# Altium schematic symbol library eElements.SCHLIB: 28 symbols
Pins are listed as number, name and electrical type; pins without a type are passive.

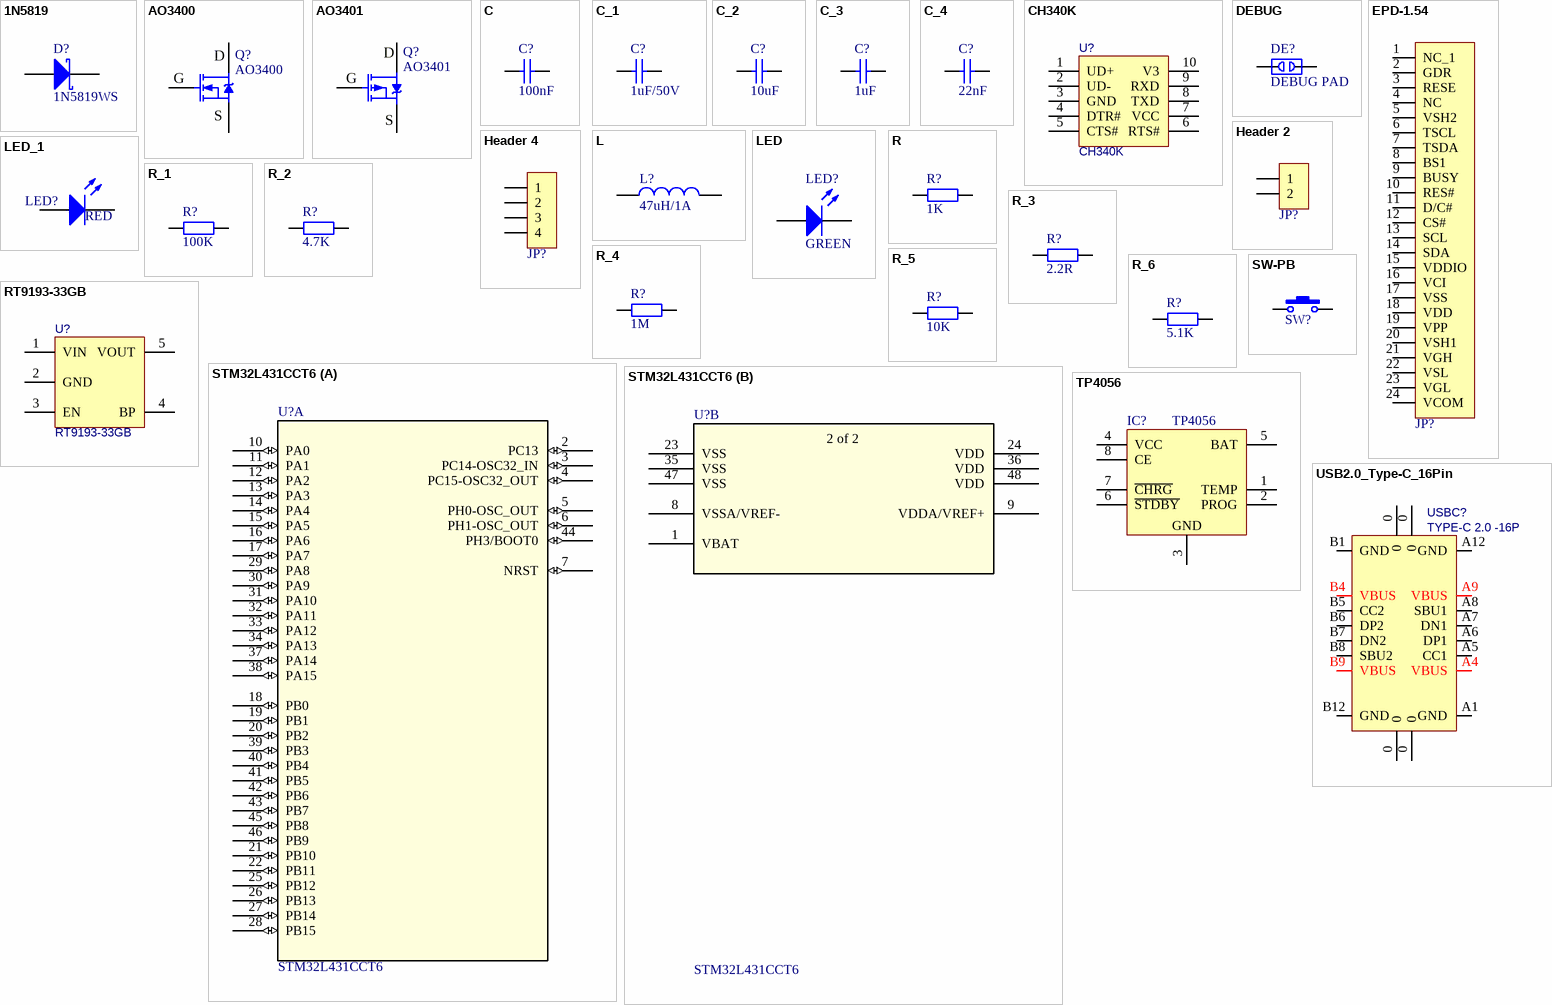
[diagram p0: symbols 1N5819 to USB2.0_Type-C_16Pin]

## 1N5819
designator D?, comment 1N5819WS
肖特基二极管; 当前库版本V2022.12.25 @淘宝卖家:黄晶宝石: 最新版本发布https://shop463601444.taobao.com; BOM名称: 肖特基二极管
footprint SOD-323 (1.8x1.3X0.9mm（长宽高，不包括引脚）)
footprint SMA (4.5x2.6*2.2mm（长宽高，不包括引脚）联系卖家 免费查找封装)
pins: 1 A, 2 K

## AO3400
designator Q?
N沟道 30V/4.2A; BOM名称: 场效应管; 联系下单店铺卖家 免费帮你查找封装: 联系下单店铺卖家 免费技术支持; 参数: N沟道 30V/4.2A
footprint SOT23-3N (SOT23, 3-Leads, Body 2.9x1.3mm, Pitch 0.95mm, Lead Span 2.4mm, IPC Medium Density)
footprint SOT23-3L (SOT23, 3-Leads, Body 2.9x1.3mm, Pitch 0.95mm, Lead Span 2.4mm, IPC High Density)
footprint SOT23-3M (SOT23, 3-Leads, Body 2.9x1.3mm, Pitch 0.95mm, Lead Span 2.4mm, IPC Low Density)
pins: 1 G, 2 S, 3 D

## AO3401
designator Q?
P沟道 30V/4.2A; BOM名称: 场效应管; 联系下单店铺卖家 免费帮你查找封装: 联系下单店铺卖家 免费技术支持; 参数: P沟道 30V/4.2A
footprint SOT23-3N (SOT23, 3-Leads, Body 2.9x1.3mm, Pitch 0.95mm, Lead Span 2.4mm, IPC Medium Density)
footprint SOT23-3L (SOT23, 3-Leads, Body 2.9x1.3mm, Pitch 0.95mm, Lead Span 2.4mm, IPC High Density)
footprint SOT23-3M (SOT23, 3-Leads, Body 2.9x1.3mm, Pitch 0.95mm, Lead Span 2.4mm, IPC Low Density)
pins: 1 G, 2 S, 3 D

## C
designator C?, comment 100nF
贴片电容/MLCC电容; BOM名称: 无极性贴片电容; 当前库版本V2022.12.25 @淘宝卖家:黄晶宝石: 最新版本发布https://shop463601444.taobao.com
footprint C0201_L (贴片MLCC电容)
footprint C0402_L (贴片MLCC电容)
footprint C0603_L (贴片MLCC电容)
footprint C0603_M (贴片MLCC电容)
footprint C1206_L (贴片MLCC电容)
footprint C1210_L (贴片MLCC电容)
footprint C1808_L (贴片MLCC电容)
footprint C1812_L (贴片MLCC电容                  联系卖家 免费查找封装)
footprint C1825_L (贴片MLCC电容)
footprint C2225_L (贴片MLCC电容)
footprint C0201_M (贴片MLCC电容                联系卖家 免费查找封装)
footprint C0402_M (贴片MLCC电容)
footprint C0603_M (贴片MLCC电容)
footprint C0805_M (贴片MLCC电容)
footprint C1206_M (贴片MLCC电容)
footprint C1210_M (贴片MLCC电容)
footprint C1808_M (贴片MLCC电容)
footprint C1812_M (贴片MLCC电容)
footprint C1825_M (贴片MLCC电容      联系卖家 免费查找封装)
footprint C2225_M (贴片MLCC电容)
footprint C0201_NS (贴片MLCC电容-无丝印)
footprint C0402_NS (贴片MLCC电容-无丝印)
footprint C01005_NS (贴片MLCC电容-无丝印)
footprint C0805_NS (贴片MLCC电容-无丝印)
footprint C1206_NS (贴片MLCC电容-无丝印)
footprint C1210_NS (贴片MLCC电容 -无丝印)
footprint C0603_NS (贴片MLCC电容-无丝印)
footprint C0204_NS (贴片MLCC电容-无丝印)
footprint C1111_NS (贴片MLCC电容-无丝印)
footprint C2220 (贴片MLCC电容)
footprint C3838 (贴片MLCC电容-无丝印)
pins: 1, 2

## C_1
designator C?, comment 1uF/50V
贴片电容/MLCC电容; BOM名称: 无极性贴片电容; 当前库版本V2022.12.25 @淘宝卖家:黄晶宝石: 最新版本发布https://shop463601444.taobao.com
footprint C0201_L (贴片MLCC电容)
footprint C0402_L (贴片MLCC电容)
footprint C0603_L (贴片MLCC电容)
footprint C0603_M (贴片MLCC电容)
footprint C1206_L (贴片MLCC电容)
footprint C1210_L (贴片MLCC电容)
footprint C1808_L (贴片MLCC电容)
footprint C1812_L (贴片MLCC电容                  联系卖家 免费查找封装)
footprint C1825_L (贴片MLCC电容)
footprint C2225_L (贴片MLCC电容)
footprint C0201_M (贴片MLCC电容                联系卖家 免费查找封装)
footprint C0402_M (贴片MLCC电容)
footprint C0603_M (贴片MLCC电容)
footprint C0805_M (贴片MLCC电容)
footprint C1206_M (贴片MLCC电容)
footprint C1210_M (贴片MLCC电容)
footprint C1808_M (贴片MLCC电容)
footprint C1812_M (贴片MLCC电容)
footprint C1825_M (贴片MLCC电容      联系卖家 免费查找封装)
footprint C2225_M (贴片MLCC电容)
footprint C0201_NS (贴片MLCC电容-无丝印)
footprint C0402_NS (贴片MLCC电容-无丝印)
footprint C01005_NS (贴片MLCC电容-无丝印)
footprint C0805_NS (贴片MLCC电容-无丝印)
footprint C1206_NS (贴片MLCC电容-无丝印)
footprint C1210_NS (贴片MLCC电容 -无丝印)
footprint C0603_NS (贴片MLCC电容-无丝印)
footprint C0204_NS (贴片MLCC电容-无丝印)
footprint C1111_NS (贴片MLCC电容-无丝印)
footprint C2220 (贴片MLCC电容)
footprint C3838 (贴片MLCC电容-无丝印)
pins: 1, 2

## C_2
designator C?, comment 10uF
贴片电容/MLCC电容; BOM名称: 无极性贴片电容; 当前库版本V2022.12.25 @淘宝卖家:黄晶宝石: 最新版本发布https://shop463601444.taobao.com
footprint C0201_L (贴片MLCC电容)
footprint C0402_L (贴片MLCC电容)
footprint C0603_L (贴片MLCC电容)
footprint C0603_M (贴片MLCC电容)
footprint C1206_L (贴片MLCC电容)
footprint C1210_L (贴片MLCC电容)
footprint C1808_L (贴片MLCC电容)
footprint C1812_L (贴片MLCC电容                  联系卖家 免费查找封装)
footprint C1825_L (贴片MLCC电容)
footprint C2225_L (贴片MLCC电容)
footprint C0201_M (贴片MLCC电容                联系卖家 免费查找封装)
footprint C0402_M (贴片MLCC电容)
footprint C0603_M (贴片MLCC电容)
footprint C0805_M (贴片MLCC电容)
footprint C1206_M (贴片MLCC电容)
footprint C1210_M (贴片MLCC电容)
footprint C1808_M (贴片MLCC电容)
footprint C1812_M (贴片MLCC电容)
footprint C1825_M (贴片MLCC电容      联系卖家 免费查找封装)
footprint C2225_M (贴片MLCC电容)
footprint C0201_NS (贴片MLCC电容-无丝印)
footprint C0402_NS (贴片MLCC电容-无丝印)
footprint C01005_NS (贴片MLCC电容-无丝印)
footprint C0805_NS (贴片MLCC电容-无丝印)
footprint C1206_NS (贴片MLCC电容-无丝印)
footprint C1210_NS (贴片MLCC电容 -无丝印)
footprint C0603_NS (贴片MLCC电容-无丝印)
footprint C0204_NS (贴片MLCC电容-无丝印)
footprint C1111_NS (贴片MLCC电容-无丝印)
footprint C2220 (贴片MLCC电容)
footprint C3838 (贴片MLCC电容-无丝印)
pins: 1, 2

## C_3
designator C?, comment 1uF
贴片电容/MLCC电容; BOM名称: 无极性贴片电容; 当前库版本V2022.12.25 @淘宝卖家:黄晶宝石: 最新版本发布https://shop463601444.taobao.com
footprint C0201_L (贴片MLCC电容)
footprint C0402_L (贴片MLCC电容)
footprint C0603_L (贴片MLCC电容)
footprint C0603_M (贴片MLCC电容)
footprint C1206_L (贴片MLCC电容)
footprint C1210_L (贴片MLCC电容)
footprint C1808_L (贴片MLCC电容)
footprint C1812_L (贴片MLCC电容                  联系卖家 免费查找封装)
footprint C1825_L (贴片MLCC电容)
footprint C2225_L (贴片MLCC电容)
footprint C0201_M (贴片MLCC电容                联系卖家 免费查找封装)
footprint C0402_M (贴片MLCC电容)
footprint C0603_M (贴片MLCC电容)
footprint C0805_M (贴片MLCC电容)
footprint C1206_M (贴片MLCC电容)
footprint C1210_M (贴片MLCC电容)
footprint C1808_M (贴片MLCC电容)
footprint C1812_M (贴片MLCC电容)
footprint C1825_M (贴片MLCC电容      联系卖家 免费查找封装)
footprint C2225_M (贴片MLCC电容)
footprint C0201_NS (贴片MLCC电容-无丝印)
footprint C0402_NS (贴片MLCC电容-无丝印)
footprint C01005_NS (贴片MLCC电容-无丝印)
footprint C0805_NS (贴片MLCC电容-无丝印)
footprint C1206_NS (贴片MLCC电容-无丝印)
footprint C1210_NS (贴片MLCC电容 -无丝印)
footprint C0603_NS (贴片MLCC电容-无丝印)
footprint C0204_NS (贴片MLCC电容-无丝印)
footprint C1111_NS (贴片MLCC电容-无丝印)
footprint C2220 (贴片MLCC电容)
footprint C3838 (贴片MLCC电容-无丝印)
pins: 1, 2

## C_4
designator C?, comment 22nF
贴片电容/MLCC电容; BOM名称: 无极性贴片电容; 当前库版本V2022.12.25 @淘宝卖家:黄晶宝石: 最新版本发布https://shop463601444.taobao.com
footprint C0201_L (贴片MLCC电容)
footprint C0402_L (贴片MLCC电容)
footprint C0603_L (贴片MLCC电容)
footprint C0603_M (贴片MLCC电容)
footprint C1206_L (贴片MLCC电容)
footprint C1210_L (贴片MLCC电容)
footprint C1808_L (贴片MLCC电容)
footprint C1812_L (贴片MLCC电容                  联系卖家 免费查找封装)
footprint C1825_L (贴片MLCC电容)
footprint C2225_L (贴片MLCC电容)
footprint C0201_M (贴片MLCC电容                联系卖家 免费查找封装)
footprint C0402_M (贴片MLCC电容)
footprint C0603_M (贴片MLCC电容)
footprint C0805_M (贴片MLCC电容)
footprint C1206_M (贴片MLCC电容)
footprint C1210_M (贴片MLCC电容)
footprint C1808_M (贴片MLCC电容)
footprint C1812_M (贴片MLCC电容)
footprint C1825_M (贴片MLCC电容      联系卖家 免费查找封装)
footprint C2225_M (贴片MLCC电容)
footprint C0201_NS (贴片MLCC电容-无丝印)
footprint C0402_NS (贴片MLCC电容-无丝印)
footprint C01005_NS (贴片MLCC电容-无丝印)
footprint C0805_NS (贴片MLCC电容-无丝印)
footprint C1206_NS (贴片MLCC电容-无丝印)
footprint C1210_NS (贴片MLCC电容 -无丝印)
footprint C0603_NS (贴片MLCC电容-无丝印)
footprint C0204_NS (贴片MLCC电容-无丝印)
footprint C1111_NS (贴片MLCC电容-无丝印)
footprint C2220 (贴片MLCC电容)
footprint C3838 (贴片MLCC电容-无丝印)
pins: 1, 2

## CH340K
designator U?
USB转串口芯片, 内置晶振; 芯片厂商: WCH(南京沁恒); 封装库来自淘宝卖家：黄晶宝石: 其他店铺购入均为盗版封装库，无更新权益，退款现金奖励200~1000元; 当前库版本V2022.12.25 @淘宝卖家:黄晶宝石: 最新版本发布https://shop463601444.taobao.com
footprint SOP10_M (4.9*6*1.5mm（长宽高）)
pins: 1 UD+, 2 UD-, 3 GND, 4 DTR#, 5 CTS#, 6 RTS#, 7 VCC, 8 TXD, 9 RXD, 10 V3

## DEBUG
designator DE?, comment DEBUG PAD
调试断点焊盘; 联系下单店铺卖家 免费技术支持: 联系下单店铺卖家 免费帮你查找封装; BOM名称: 调试断点焊盘
footprint DEBUG_B (调试断点焊盘)
footprint DEBUG_B (调试断点焊盘)
pins: 1, 2

## EPD-1.54
designator JP?, comment CON-24P  (value not drawn)
2.54寸墨水屏24P连接器（上接点或上下接点24PIN的0.5mmFPC插座）; BOM名称: 1.54寸墨水屏; 封装库来自淘宝卖家：黄晶宝石: 获取最新版本https://shop463601444.taobao.com
footprint FPC0.5-WT-24P-上接
pins: 1 NC_1, 2 GDR, 3 RESE, 4 NC, 5 VSH2, 6 TSCL, 7 TSDA, 8 BS1, 9 BUSY, 10 RES#, 11 D/C#, 12 CS#, 13 SCL, 14 SDA, 15 VDDIO, 16 VCI, 17 VSS, 18 VDD, 19 VPP, 20 VSH1, 21 VGH, 22 VSL, 23 VGL, 24 VCOM

## Header 2
designator JP?, comment HDR-1X2  (value not drawn)
2P连接器; 联系卖家 免费技术支持: 封装库来自淘宝卖家ID：黄晶宝石; BOM名称: 2P连接器
footprint MX1.25-W-2P (长：4.25mm，宽：1.8mm，高：3.3mm)
footprint MX1.25-L-2P (长：4.25mm，宽：3.2mm，高：4.2mm)
footprint MX1.25-WT-2P (长：7.65mm，宽：4.2mm，高：3.4mm)
footprint MX1.25-LT-2P (长：7.25m，宽：3.7mm，高：4.7mm)
footprint GH1.25-LT-2P (GH1.25 2P 立贴插座)
footprint GH1.25-WT-2P (GH1.25 2P 卧贴插座)
pins: 1, 2

## Header 4
designator JP?, comment HDR-1X4  (value not drawn)
4P连接器; 联系卖家 免费查找封装: 唯一出售店铺网址https://shop463601444.taobao.com; BOM名称: 4P连接器
footprint HDR1.27-LI-4P (直插，脚距：1.27mm  封装库来自淘宝卖家 ID：黄晶宝石)
footprint HDR1.27-M-LI-4P (直插，脚距：1.27mm)
pins: 1, 2, 3, 4

## L
designator L?, comment 47uH/1A
贴片小功率电感; BOM名称: 小功率贴片电感; 联系下单店铺卖家 免费帮你查找封装: 联系下单店铺卖家 免费技术支持
footprint L0402 (0402贴片叠层电感)
footprint L0603 (0603贴片叠层电感)
footprint SWPA4030 (轮廓4mm*4mm ，焊盘间距1.9mm          淘宝ID:黄晶宝石)
footprint L1206 (1206贴片叠层电感)
footprint L1210 (1210贴片叠层电感)
footprint L1806 (1806贴片叠层电感)
footprint L1812 (1812贴片叠层电感)
footprint L0201 (0201贴片叠层电感)
footprint L01005_NS (01005贴片叠层电感)
pins: 1, 2

## LED
designator LED?, comment GREEN
贴片LED; 封装库来自淘宝卖家：黄晶宝石: 其他店铺购入均为盗版封装库，无更新权益，请立即申请退款，本店现金奖励200~1000元; BOM名称: 贴片LED
footprint LED0603_W (白色0603LED)
footprint LED0603_R (红色0603LED)
footprint LED0603_B (蓝色0603LED)
footprint LED0603_G (绿色0603LED)
footprint LED0603_Y (黄色0603LED)
footprint LED0603_R (红色0603LED)
footprint LED0805_R (红色0805LED)
footprint LED0805_B (蓝色0805LED)
footprint LED0805_Y (黄色0805LED)
footprint LED 3528-2Pin (2脚，3528LED)
footprint LED1206_G (绿色1206LED)
footprint LED 5730-V (紫色5730LED)
footprint LED1206_Y (黄色1206LED)
footprint LED0805_W (白色0805LED)
footprint LED1206_B (蓝色1206LED)
footprint LED1206_W (白色1206LED)
footprint LED1206_R (红色1206LED)
footprint LED0402_B (蓝色0402LED)
footprint LED0402_G (绿色0402LED)
footprint LED0402_R (红色0402LED)
footprint LED0402_W (白色0402LED)
footprint LED0402_Y (黄色0402LED)
footprint LED0201 (0201 LED)
pins: 1 A, 2 K

## LED_1
designator LED?, comment RED
贴片LED; 封装库来自淘宝卖家：黄晶宝石: 其他店铺购入均为盗版封装库，无更新权益，请立即申请退款，本店现金奖励200~1000元; BOM名称: 贴片LED
footprint LED0603_W (白色0603LED)
footprint LED0603_R (红色0603LED)
footprint LED0603_B (蓝色0603LED)
footprint LED0603_G (绿色0603LED)
footprint LED0603_Y (黄色0603LED)
footprint LED0603_R (红色0603LED)
footprint LED0805_R (红色0805LED)
footprint LED0805_B (蓝色0805LED)
footprint LED0805_Y (黄色0805LED)
footprint LED 3528-2Pin (2脚，3528LED)
footprint LED1206_G (绿色1206LED)
footprint LED 5730-V (紫色5730LED)
footprint LED1206_Y (黄色1206LED)
footprint LED0805_W (白色0805LED)
footprint LED1206_B (蓝色1206LED)
footprint LED1206_W (白色1206LED)
footprint LED1206_R (红色1206LED)
footprint LED0402_B (蓝色0402LED)
footprint LED0402_G (绿色0402LED)
footprint LED0402_R (红色0402LED)
footprint LED0402_W (白色0402LED)
footprint LED0402_Y (黄色0402LED)
footprint LED0201 (0201 LED)
pins: 1 A, 2 K

## R
designator R?, comment 1K
贴片电阻; 联系下单店铺卖家 免费帮你查找封装: 联系下单店铺卖家 免费技术支持; BOM名称: 贴片电阻
footprint R0201_L (1/20W贴片电阻)
footprint R0402_L (1/16W贴片电阻)
footprint R0603_L (1/10W贴片电阻)
footprint R0603_M (1/10W贴片电阻)
footprint R1206_L (1/4W贴片电阻)
footprint R1210_L (1/3W贴片电阻)
footprint R1812_L (1/2W贴片电阻)
footprint R2010_L (3/4W贴片电阻)
footprint R2512_L (1W贴片电阻)
footprint R0201_M (1/20W贴片电阻)
footprint R0402_M (1/16W贴片电阻)
footprint R0603_M (1/10W贴片电阻)
footprint R0805_M (1/8W贴片电阻)
footprint R1206_M (1/4W贴片电阻)
footprint R1210_M (1/3W贴片电阻)
footprint R1812_M (1/2W贴片电阻)
footprint R2010_M (3/4W贴片电阻)
footprint R2512_M (1W贴片电阻)
footprint R0201_NS (1/20W贴片电阻-无丝印)
footprint R0402_NS (1/16W贴片电阻-无丝印)
footprint R01005_NS (1/32W贴片电阻-无丝印)
footprint R0603_NS (1/10W贴片电阻-无丝印)
footprint R0805_NS (1/8W贴片电阻-无丝印)
footprint R1206_NS (1/4W贴片电阻-无丝印)
footprint R1210_NS (1/3W贴片电阻)
pins: 1, 2

## R_1
designator R?, comment 100K
贴片电阻; 联系下单店铺卖家 免费帮你查找封装: 联系下单店铺卖家 免费技术支持; BOM名称: 贴片电阻
footprint R0201_L (1/20W贴片电阻)
footprint R0402_L (1/16W贴片电阻)
footprint R0603_L (1/10W贴片电阻)
footprint R0603_M (1/10W贴片电阻)
footprint R1206_L (1/4W贴片电阻)
footprint R1210_L (1/3W贴片电阻)
footprint R1812_L (1/2W贴片电阻)
footprint R2010_L (3/4W贴片电阻)
footprint R2512_L (1W贴片电阻)
footprint R0201_M (1/20W贴片电阻)
footprint R0402_M (1/16W贴片电阻)
footprint R0603_M (1/10W贴片电阻)
footprint R0805_M (1/8W贴片电阻)
footprint R1206_M (1/4W贴片电阻)
footprint R1210_M (1/3W贴片电阻)
footprint R1812_M (1/2W贴片电阻)
footprint R2010_M (3/4W贴片电阻)
footprint R2512_M (1W贴片电阻)
footprint R0201_NS (1/20W贴片电阻-无丝印)
footprint R0402_NS (1/16W贴片电阻-无丝印)
footprint R01005_NS (1/32W贴片电阻-无丝印)
footprint R0603_NS (1/10W贴片电阻-无丝印)
footprint R0805_NS (1/8W贴片电阻-无丝印)
footprint R1206_NS (1/4W贴片电阻-无丝印)
footprint R1210_NS (1/3W贴片电阻)
pins: 1, 2

## R_2
designator R?, comment 4.7K
贴片电阻; 联系下单店铺卖家 免费帮你查找封装: 联系下单店铺卖家 免费技术支持; BOM名称: 贴片电阻
footprint R0201_L (1/20W贴片电阻)
footprint R0402_L (1/16W贴片电阻)
footprint R0603_L (1/10W贴片电阻)
footprint R0603_M (1/10W贴片电阻)
footprint R1206_L (1/4W贴片电阻)
footprint R1210_L (1/3W贴片电阻)
footprint R1812_L (1/2W贴片电阻)
footprint R2010_L (3/4W贴片电阻)
footprint R2512_L (1W贴片电阻)
footprint R0201_M (1/20W贴片电阻)
footprint R0402_M (1/16W贴片电阻)
footprint R0603_M (1/10W贴片电阻)
footprint R0805_M (1/8W贴片电阻)
footprint R1206_M (1/4W贴片电阻)
footprint R1210_M (1/3W贴片电阻)
footprint R1812_M (1/2W贴片电阻)
footprint R2010_M (3/4W贴片电阻)
footprint R2512_M (1W贴片电阻)
footprint R0201_NS (1/20W贴片电阻-无丝印)
footprint R0402_NS (1/16W贴片电阻-无丝印)
footprint R01005_NS (1/32W贴片电阻-无丝印)
footprint R0603_NS (1/10W贴片电阻-无丝印)
footprint R0805_NS (1/8W贴片电阻-无丝印)
footprint R1206_NS (1/4W贴片电阻-无丝印)
footprint R1210_NS (1/3W贴片电阻)
pins: 1, 2

## R_3
designator R?, comment 2.2R
贴片电阻; 联系下单店铺卖家 免费帮你查找封装: 联系下单店铺卖家 免费技术支持; BOM名称: 贴片电阻
footprint R0201_L (1/20W贴片电阻)
footprint R0402_L (1/16W贴片电阻)
footprint R0603_L (1/10W贴片电阻)
footprint R0603_M (1/10W贴片电阻)
footprint R1206_L (1/4W贴片电阻)
footprint R1210_L (1/3W贴片电阻)
footprint R1812_L (1/2W贴片电阻)
footprint R2010_L (3/4W贴片电阻)
footprint R2512_L (1W贴片电阻)
footprint R0201_M (1/20W贴片电阻)
footprint R0402_M (1/16W贴片电阻)
footprint R0603_M (1/10W贴片电阻)
footprint R0805_M (1/8W贴片电阻)
footprint R1206_M (1/4W贴片电阻)
footprint R1210_M (1/3W贴片电阻)
footprint R1812_M (1/2W贴片电阻)
footprint R2010_M (3/4W贴片电阻)
footprint R2512_M (1W贴片电阻)
footprint R0201_NS (1/20W贴片电阻-无丝印)
footprint R0402_NS (1/16W贴片电阻-无丝印)
footprint R01005_NS (1/32W贴片电阻-无丝印)
footprint R0603_NS (1/10W贴片电阻-无丝印)
footprint R0805_NS (1/8W贴片电阻-无丝印)
footprint R1206_NS (1/4W贴片电阻-无丝印)
footprint R1210_NS (1/3W贴片电阻)
pins: 1, 2

## R_4
designator R?, comment 1M
贴片电阻; 联系下单店铺卖家 免费帮你查找封装: 联系下单店铺卖家 免费技术支持; BOM名称: 贴片电阻
footprint R0201_L (1/20W贴片电阻)
footprint R0402_L (1/16W贴片电阻)
footprint R0603_L (1/10W贴片电阻)
footprint R0603_M (1/10W贴片电阻)
footprint R1206_L (1/4W贴片电阻)
footprint R1210_L (1/3W贴片电阻)
footprint R1812_L (1/2W贴片电阻)
footprint R2010_L (3/4W贴片电阻)
footprint R2512_L (1W贴片电阻)
footprint R0201_M (1/20W贴片电阻)
footprint R0402_M (1/16W贴片电阻)
footprint R0603_M (1/10W贴片电阻)
footprint R0805_M (1/8W贴片电阻)
footprint R1206_M (1/4W贴片电阻)
footprint R1210_M (1/3W贴片电阻)
footprint R1812_M (1/2W贴片电阻)
footprint R2010_M (3/4W贴片电阻)
footprint R2512_M (1W贴片电阻)
footprint R0201_NS (1/20W贴片电阻-无丝印)
footprint R0402_NS (1/16W贴片电阻-无丝印)
footprint R01005_NS (1/32W贴片电阻-无丝印)
footprint R0603_NS (1/10W贴片电阻-无丝印)
footprint R0805_NS (1/8W贴片电阻-无丝印)
footprint R1206_NS (1/4W贴片电阻-无丝印)
footprint R1210_NS (1/3W贴片电阻)
pins: 1, 2

## R_5
designator R?, comment 10K
贴片电阻; 联系下单店铺卖家 免费帮你查找封装: 联系下单店铺卖家 免费技术支持; BOM名称: 贴片电阻
footprint R0201_L (1/20W贴片电阻)
footprint R0402_L (1/16W贴片电阻)
footprint R0603_L (1/10W贴片电阻)
footprint R0603_M (1/10W贴片电阻)
footprint R1206_L (1/4W贴片电阻)
footprint R1210_L (1/3W贴片电阻)
footprint R1812_L (1/2W贴片电阻)
footprint R2010_L (3/4W贴片电阻)
footprint R2512_L (1W贴片电阻)
footprint R0201_M (1/20W贴片电阻)
footprint R0402_M (1/16W贴片电阻)
footprint R0603_M (1/10W贴片电阻)
footprint R0805_M (1/8W贴片电阻)
footprint R1206_M (1/4W贴片电阻)
footprint R1210_M (1/3W贴片电阻)
footprint R1812_M (1/2W贴片电阻)
footprint R2010_M (3/4W贴片电阻)
footprint R2512_M (1W贴片电阻)
footprint R0201_NS (1/20W贴片电阻-无丝印)
footprint R0402_NS (1/16W贴片电阻-无丝印)
footprint R01005_NS (1/32W贴片电阻-无丝印)
footprint R0603_NS (1/10W贴片电阻-无丝印)
footprint R0805_NS (1/8W贴片电阻-无丝印)
footprint R1206_NS (1/4W贴片电阻-无丝印)
footprint R1210_NS (1/3W贴片电阻)
pins: 1, 2

## R_6
designator R?, comment 5.1K
贴片电阻; 联系下单店铺卖家 免费帮你查找封装: 联系下单店铺卖家 免费技术支持; BOM名称: 贴片电阻
footprint R0201_L (1/20W贴片电阻)
footprint R0402_L (1/16W贴片电阻)
footprint R0603_L (1/10W贴片电阻)
footprint R0603_M (1/10W贴片电阻)
footprint R1206_L (1/4W贴片电阻)
footprint R1210_L (1/3W贴片电阻)
footprint R1812_L (1/2W贴片电阻)
footprint R2010_L (3/4W贴片电阻)
footprint R2512_L (1W贴片电阻)
footprint R0201_M (1/20W贴片电阻)
footprint R0402_M (1/16W贴片电阻)
footprint R0603_M (1/10W贴片电阻)
footprint R0805_M (1/8W贴片电阻)
footprint R1206_M (1/4W贴片电阻)
footprint R1210_M (1/3W贴片电阻)
footprint R1812_M (1/2W贴片电阻)
footprint R2010_M (3/4W贴片电阻)
footprint R2512_M (1W贴片电阻)
footprint R0201_NS (1/20W贴片电阻-无丝印)
footprint R0402_NS (1/16W贴片电阻-无丝印)
footprint R01005_NS (1/32W贴片电阻-无丝印)
footprint R0603_NS (1/10W贴片电阻-无丝印)
footprint R0805_NS (1/8W贴片电阻-无丝印)
footprint R1206_NS (1/4W贴片电阻-无丝印)
footprint R1210_NS (1/3W贴片电阻)
pins: 1, 2

## RT9193-33GB
designator U?
LDO 3.3V/0.3A; BOM名称: RT9193-30GB; 当前库版本V2022.12.25 @淘宝卖家:黄晶宝石: 最新版本发布https://shop463601444.taobao.com
footprint SOT-23-5 (SOT23, 5-Leads, Body 2.9x1.6mm, Pitch 0.95mm, IPC Medium Density)
pins: 1 VIN, 2 GND, 3 EN, 4 BP, 5 VOUT

## STM32L431CCT6
designator U?
Ultra-low-power with FPU Arm Cortex-M4 MCU 80 MHz with 256 Kbytes of Flash memory; Mfr_Name: STMicroelectronics; RefDes: RefDes; Type: Type
footprint LQFP48_M (Thin QFP, 48-Leads, Body 7x7mm, Pitch 0.5mm, IPC Low Density  联系卖家 免费查找封装)
part A pins: 2 PC13 (io), 3 PC14-OSC32_IN (io), 4 PC15-OSC32_OUT (io), 5 PH0-OSC_OUT (io), 6 PH1-OSC_OUT (io), 7 NRST (io), 10 PA0 (io), 11 PA1 (io), 12 PA2 (io), 13 PA3 (io), 14 PA4 (io), 15 PA5 (io), 16 PA6 (io), 17 PA7 (io), 18 PB0 (io), 19 PB1 (io), 20 PB2 (io), 21 PB10 (io), 22 PB11 (io), 25 PB12 (io), 26 PB13 (io), 27 PB14 (io), 28 PB15 (io), 29 PA8 (io), 30 PA9 (io), 31 PA10 (io), 32 PA11 (io), 33 PA12 (io), 34 PA13 (io), 37 PA14 (io), 38 PA15 (io), 39 PB3 (io), 40 PB4 (io), 41 PB5 (io), 42 PB6 (io), 43 PB7 (io), 44 PH3/BOOT0 (io), 45 PB8 (io), 46 PB9 (io)
part B pins: 1 VBAT (power), 8 VSSA/VREF- (power), 9 VDDA/VREF+ (power), 23 VSS (power), 24 VDD (power), 35 VSS (power), 36 VDD (power), 47 VSS (power), 48 VDD (power)
part B text: 2 of 2

## SW-PB
designator SW?, comment 3x6x5  (value not drawn)
微动开关; BOM名称: 3x6轻触开关; 联系下单店铺卖家 免费技术支持: 联系下单店铺卖家 免费帮你查找封装
footprint SW SMD-3*6*2.5 (3*6*2.5mm)
footprint SW DIP-3*6*5_V (侧按轻触开关 3*6*5mm)
footprint SW DIP-3*6*4.3 (3*6*4.3mm)
footprint SW DIP-3*6*4.3_V (侧按轻触开关 3*6*4.3mm)
footprint SW DIP-3*6*5 (3*6*5mm)
footprint SW SMD-3*6*4.3 (3*6*4.3mm)
footprint SW SMD-3*6*5 (3*6*5mm)
footprint SW 3*6*4.3-S-W (侧立贴片3*6*4.3)
pins: 1, 2

## TP4056
designator IC?
锂电池充电管理; 当前库版本V2022.12.25 @淘宝卖家:黄晶宝石: 最新版本发布https://shop463601444.taobao.com; BOM名称: 锂电池充电管理
footprint SOIC-8_EP (5*6*1.8mm（长宽高）封装库来自淘宝卖家 ID：黄晶宝石)
pins: 1 TEMP, 2 PROG, 3 GND, 4 VCC, 5 BAT, 6 ~{STDBY}, 7 ~{CHRG}, 8 CE

## USB2.0_Type-C_16Pin
designator USBC?, comment TYPE-C 2.0 -16P
USB2.0_Type-C_16Pin母座; 当前库版本V2022.12.25 @淘宝卖家:黄晶宝石: 最新版本发布https://shop463601444.taobao.com
footprint USB-C-SMD_16P (封装库来自淘宝ID:黄晶宝石)
pins: 0, 0, 0, 0, A1 GND, A4 VBUS, A5 CC1, A6 DP1, A7 DN1, A8 SBU1, A9 VBUS, A12 GND, B1 GND, B4 VBUS, B5 CC2, B6 DP2, B7 DN2, B8 SBU2, B9 VBUS, B12 GND